# Altium schematic symbol library Thing_plus.SchLib: 1 symbol
Pins are listed as number, name and electrical type; pins without a type are passive.

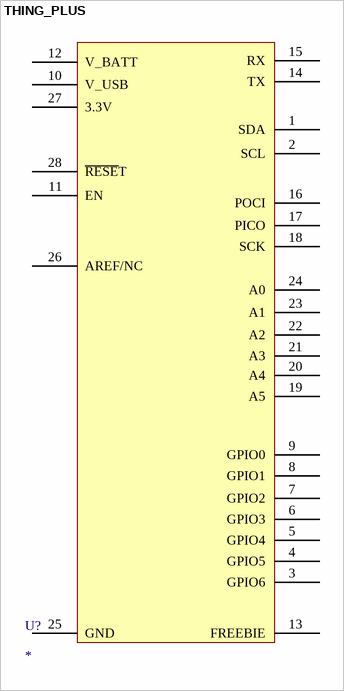
[diagram p0: symbol THING_PLUS]

## THING_PLUS
designator U?  (no BOM)
pins: 1 SDA, 2 SCL, 3 GPIO6, 4 GPIO5, 5 GPIO4, 6 GPIO3, 7 GPIO2, 8 GPIO1, 9 GPIO0, 10 V_USB, 11 EN, 12 V_BATT, 13 FREEBIE, 14 TX, 15 RX, 16 POCI, 17 PICO, 18 SCK, 19 A5, 20 A4, 21 A3, 22 A2, 23 A1, 24 A0, 25 GND, 26 AREF/NC, 27 3.3V, 28 ~{RESE}T